# EAGLE library part EFD20/10/7 (library inductor-Ferroxcube)
EFD20 core + bobbin
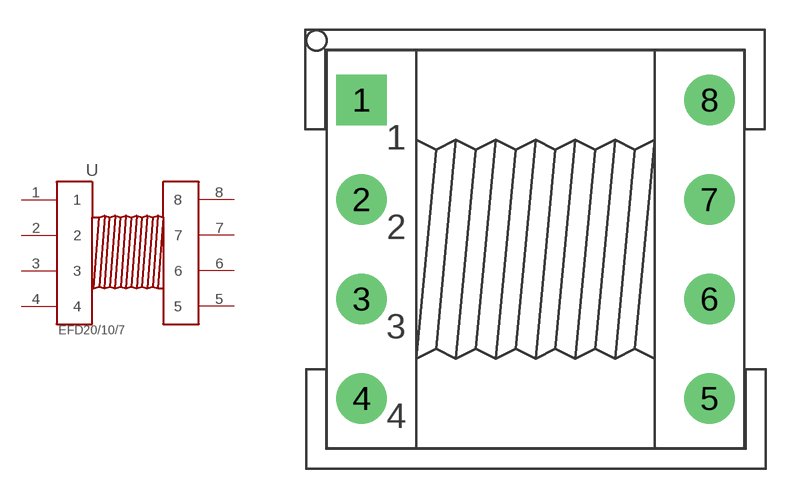
[diagram p1: symbol with the pads of EFD20/10/7; footprint EFD20/10/7]

Designator prefix -

## EFD20/10/7  [EFD20/10/7]
1  1  pas
2  2  pas
3  3  pas
4  4  pas
5  5  pas
6  6  pas
7  7  pas
8  8  pas

## Footprint EFD20/10/7 (pad centres in mm)
drill 1.4 pad 2.54 square: 1 -8.75,7.5
drill 1.4 pad 2.54: 2 -8.75,2.5; 3 -8.75,-2.5; 4 -8.75,-7.5; 5 8.75,-7.5; 6 8.75,-2.5; 7 8.75,2.5; 8 8.75,7.5